# Altium schematic symbol library S4B-PH-SM4-TB__LF__SN_.SchLib: 1 symbol
Pins are listed as number, name and electrical type; pins without a type are passive.

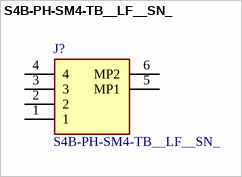
[diagram p0: symbol S4B-PH-SM4-TB__LF__SN_]

## S4B-PH-SM4-TB__LF__SN_
designator J?
Connector Header Surface Mount, Right Angle 4 position 0.079" (2.00mm); Manufacturer_Name: JST (JAPAN SOLDERLESS TERMINALS); Manufacturer_Part_Number: S4B-PH-SM4-TB (LF)(SN); Geometry.Height: 5.5mm; Mouser Part Number: *; Mouser Price/Stock: *; Arrow Part Number: *; Arrow Price/Stock: *; Datasheet Link: https://www.jst-mfg.com/product/pdf/eng/ePH.pdf
footprint S4BPHSM4TBLFSN
pins: 1, 2, 3, 4, 5 MP1, 6 MP2